# EAGLE library part AEM10941-QFN (library AEM10941-QFN)
Power Management Specialized - PMIC PV Cell PMIC Source: Datasheet <https://e-peas.com/product/aem10941/>
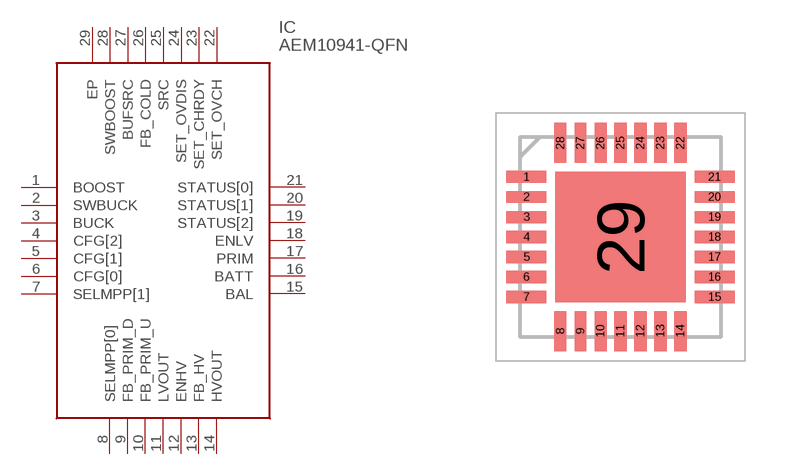
[diagram p0: symbol with the pads of QFN50P500X500X90-29N; footprint QFN50P500X500X90-29N]

Designator prefix IC

## AEM10941-QFN (Description: Power Management Specialized - PMIC PV Cell PMIC; Height: 0.9mm; Manufacturer_Name: E-PEAS; Manufacturer_Part_Number: AEM10941-QFN; Mouser_Part_Number: 120-AEM10941-QFN; Mouser_Price-Stock: https://www.mouser.co.uk/ProductDetail/e-peas/AEM10941-QFN?qs=W%2FMpXkg%252BdQ7CeqB2lBPbRQ%3D%3D)  [QFN50P500X500X90-29N]
1  BOOST
2  SWBUCK
3  BUCK
4  CFG[2]
5  CFG[1]
6  CFG[0]
7  SELMPP[1]
8  SELMPP[0]
9  FB_PRIM_D
10  FB_PRIM_U
11  LVOUT
12  ENHV
13  FB_HV
14  HVOUT
15  BAL
16  BATT
17  PRIM
18  ENLV
19  STATUS[2]
20  STATUS[1]
21  STATUS[0]
22  SET_OVCH
23  SET_CHRDY
24  SET_OVDIS
25  SRC
26  FB_COLD
27  BUFSRC
28  SWBOOST
29  EP

## Footprint QFN50P500X500X90-29N (pad centres in mm)
no-lead (QFN28 5x5mm)
smd 1 x 0.3: 1 -2.35,1.5; 2 -2.35,1; 3 -2.35,0.5; 4 -2.35,0; 5 -2.35,-0.5; 6 -2.35,-1; 7 -2.35,-1.5; 15 2.35,-1.5; 16 2.35,-1; 17 2.35,-0.5; 18 2.35,0; 19 2.35,0.5; 20 2.35,1; 21 2.35,1.5
smd 0.3 x 1: 8 -1.5,-2.35; 9 -1,-2.35; 10 -0.5,-2.35; 11 0,-2.35; 12 0.5,-2.35; 13 1,-2.35; 14 1.5,-2.35; 22 1.5,2.35; 23 1,2.35; 24 0.5,2.35; 25 0,2.35; 26 -0.5,2.35; 27 -1,2.35; 28 -1.5,2.35
smd 3.25 x 3.25: 29 0,0